# EAGLE library part MAPLE_MINI (library RobotCampus)
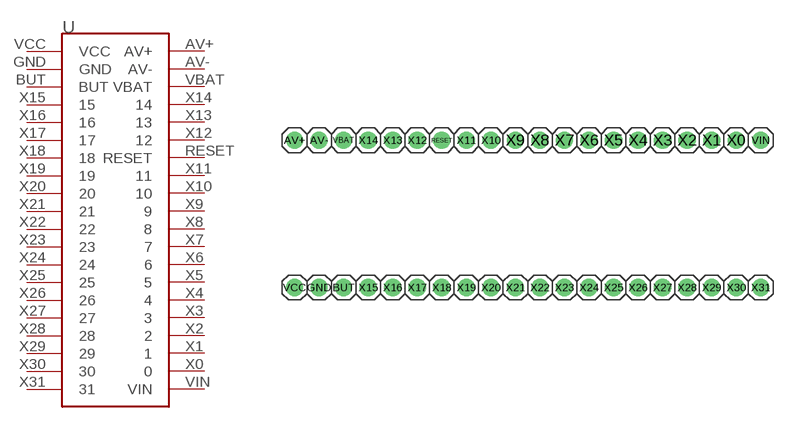
[diagram p0: symbol with the pads of CONNEC_2X20; footprint CONNEC_2X20]

Designator prefix -

## MAPLE_MINI  [CONNEC_2X20]
AV+  AV+
AV-  AV-
BUT  BUT
GND  GND
RESET  RESET
VBAT  VBAT
VCC  VCC
VIN  VIN
X0  0
X1  1
X2  2
X3  3
X4  4
X5  5
X6  6
X7  7
X8  8
X9  9
X10  10
X11  11
X12  12
X13  13
X14  14
X15  15
X16  16
X17  17
X18  18
X19  19
X20  20
X21  21
X22  22
X23  23
X24  24
X25  25
X26  26
X27  27
X28  28
X29  29
X30  30
X31  31

## Footprint CONNEC_2X20 (pad centres in mm)
drill 1 pad 1.778: AV+ 0,0; AV- 2.54,0; BUT 5.08,-15.24; GND 2.54,-15.24; RESET 15.24,0; VBAT 5.08,0; VCC 0,-15.24; VIN 48.26,0; X0 45.72,0; X1 43.18,0; X2 40.64,0; X3 38.1,0; X4 35.56,0; X5 33.02,0; X6 30.48,0; X7 27.94,0; X8 25.4,0; X9 22.86,0; X10 20.32,0; X11 17.78,0; X12 12.7,0; X13 10.16,0; X14 7.62,0; X15 7.62,-15.24; X16 10.16,-15.24; X17 12.7,-15.24; X18 15.24,-15.24; X19 17.78,-15.24; X20 20.32,-15.24; X21 22.86,-15.24; X22 25.4,-15.24; X23 27.94,-15.24; X24 30.48,-15.24; X25 33.02,-15.24; X26 35.56,-15.24; X27 38.1,-15.24; X28 40.64,-15.24; X29 43.18,-15.24; X30 45.72,-15.24; X31 48.26,-15.24